# EAGLE library part RTL8211E (library blinkinlabs)
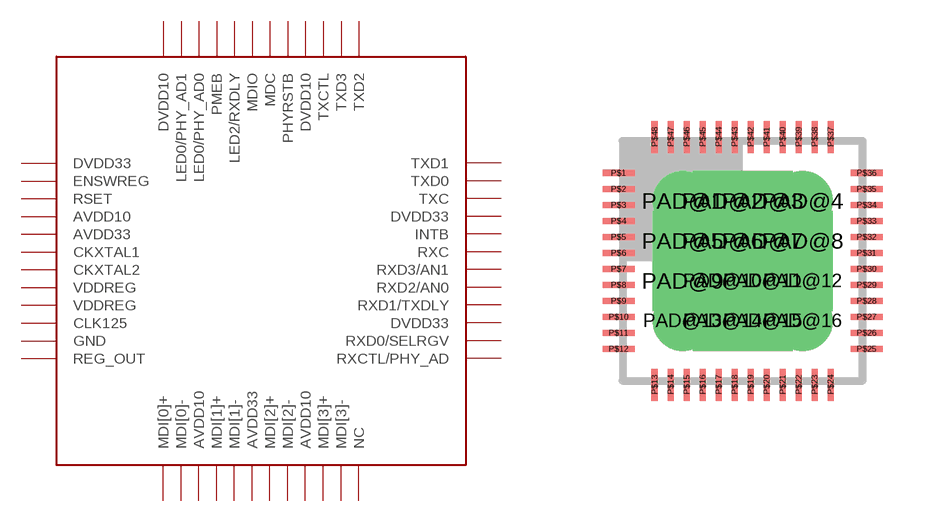
[diagram p35: symbol with the pads of QFN48ML6X6_LONGLEADS; footprint QFN48ML6X6_LONGLEADS]

Designator prefix -

## RTL8211E  [QFN48ML6X6_LONGLEADS]
P$1  MDI[0]+
P$2  MDI[0]-
P$3  AVDD10  pwr
P$4  MDI[1]+
P$5  MDI[1]-
P$6  AVDD33  pwr
P$7  MDI[2]+
P$8  MDI[2]-
P$9  AVDD10  pwr
P$10  MDI[3]+
P$11  MDI[3]-
P$12  NC  nc
P$13  RXCTL/PHY_AD
P$14  RXD0/SELRGV
P$15  DVDD33  pwr
P$16  RXD1/TXDLY
P$17  RXD2/AN0
P$18  RXD3/AN1
P$19  RXC
P$20  INTB
P$21  DVDD33  pwr
P$22  TXC
P$23  TXD0
P$24  TXD1
P$25  TXD2
P$26  TXD3
P$27  TXCTL
P$28  DVDD10  pwr
P$29  PHYRSTB
P$30  MDC
P$31  MDIO
P$32  LED2/RXDLY
P$33  PMEB
P$34  LED0/PHY_AD0
P$35  LED0/PHY_AD1
P$36  DVDD10  pwr
P$37  DVDD33  pwr
P$38  ENSWREG  pwr
P$39  RSET  pwr
P$40  AVDD10  pwr
P$41  AVDD33  pwr
P$42  CKXTAL1
P$43  CKXTAL2
P$44  VDDREG  pwr
P$45  VDDREG  pwr
P$46  CLK125
P$47  GND  pwr
P$48  REG_OUT
PAD@1  GND  pwr
PAD@2  GND  pwr
PAD@3  GND  pwr
PAD@4  GND  pwr
PAD@5  GND  pwr
PAD@6  GND  pwr
PAD@7  GND  pwr
PAD@8  GND  pwr
PAD@9  GND  pwr
PAD@10  GND  pwr
PAD@11  GND  pwr
PAD@12  GND  pwr
PAD@13  GND  pwr
PAD@14  GND  pwr
PAD@15  GND  pwr
PAD@16  GND  pwr

## Footprint QFN48ML6X6_LONGLEADS (pad centres in mm)
smd 0.8 x 0.15: P$1 -3.1,2.2; P$2 -3.1,1.8; P$3 -3.1,1.4; P$4 -3.1,1; P$5 -3.1,0.6; P$6 -3.1,0.2; P$7 -3.1,-0.2; P$8 -3.1,-0.6; P$9 -3.1,-1; P$10 -3.1,-1.4; P$11 -3.1,-1.8; P$12 -3.1,-2.2; P$25 3.1,-2.2; P$26 3.1,-1.8; P$27 3.1,-1.4; P$28 3.1,-1; P$29 3.1,-0.6; P$30 3.1,-0.2; P$31 3.1,0.2; P$32 3.1,0.6; P$33 3.1,1; P$34 3.1,1.4; P$35 3.1,1.8; P$36 3.1,2.2
smd 0.15 x 0.8: P$13 -2.2,-3.1; P$14 -1.8,-3.1; P$15 -1.4,-3.1; P$16 -1,-3.1; P$17 -0.6,-3.1; P$18 -0.2,-3.1; P$19 0.2,-3.1; P$20 0.6,-3.1; P$21 1,-3.1; P$22 1.4,-3.1; P$23 1.8,-3.1; P$24 2.2,-3.1; P$37 2.2,3.1; P$38 1.8,3.1; P$39 1.4,3.1; P$40 1,3.1; P$41 0.6,3.1; P$42 0.2,3.1; P$43 -0.2,3.1; P$44 -0.6,3.1; P$45 -1,3.1; P$46 -1.4,3.1; P$47 -1.8,3.1; P$48 -2.2,3.1
drill 0.35 pad 1.5: PAD@1 -1.5,1.5; PAD@4 1.5,1.5; PAD@13 -1.5,-1.5; PAD@16 1.5,-1.5
drill 0.35 pad 1.5 square: PAD@2 -0.5,1.5; PAD@3 0.5,1.5; PAD@5 -1.5,0.5; PAD@6 -0.5,0.5; PAD@7 0.5,0.5; PAD@8 1.5,0.5; PAD@9 -1.5,-0.5; PAD@10 -0.5,-0.5; PAD@11 0.5,-0.5; PAD@12 1.5,-0.5; PAD@14 -0.5,-1.5; PAD@15 0.5,-1.5